# EAGLE library part OPA4237 (library DAC714p)
Single-Supply Operational Amplifiers MicroAmplifier(TM) Series
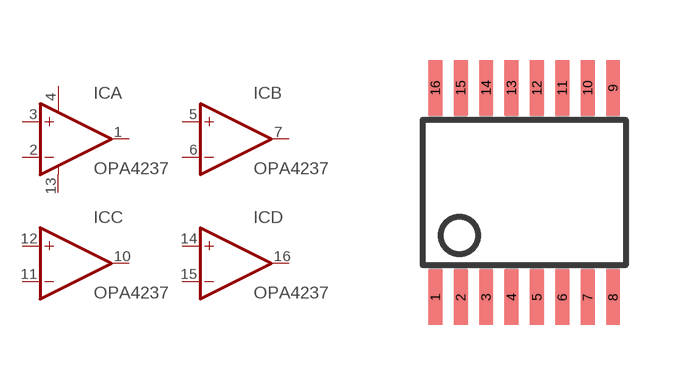
[diagram p79: symbol with the pads of SSOP16BU; footprint SSOP16BU]

Designator prefix IC; gates A=OP-AMP+- B=OP-AMP C=OP-AMP D=OP-AMP

## OPA4237U (OC_FARNELL: unknown; OC_NEWARK: unknown)  [SSOP16BU]
1  A:OUT  out
2  A:-IN  in
3  A:+IN  in
4  A:V+  pwr
5  B:+IN  in
6  B:-IN  in
7  B:OUT  out
10  C:OUT  out
11  C:-IN  in
12  C:+IN  in
13  A:V-  pwr
14  D:+IN  in
15  D:-IN  in
16  D:OUT  out

## Footprint SSOP16BU (pad centres in mm)
Small Shrink Outline Package Source: http://focus.ti.com/lit/ml/msoi004e/msoi004e.pdf
smd 0.348 x 1.397: 1 -2.223,-2.619; 2 -1.588,-2.62; 3 -0.953,-2.62; 4 -0.318,-2.62; 5 0.318,-2.62; 6 0.953,-2.62; 7 1.588,-2.62; 8 2.223,-2.62; 9 2.223,2.62; 10 1.588,2.62; 11 0.953,2.62; 12 0.318,2.62; 13 -0.318,2.62; 14 -0.953,2.62; 15 -1.588,2.62; 16 -2.223,2.62